# EAGLE library part LT1962 (library linear-technology)
LDO REGULATOR
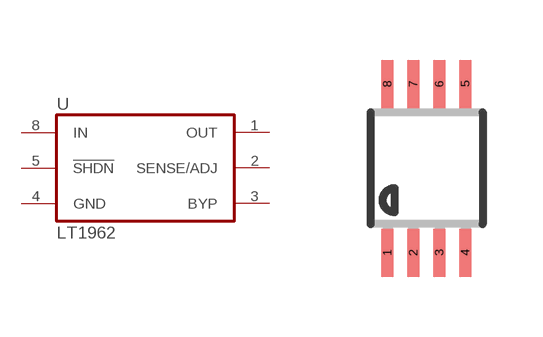
[diagram p60: symbol with the pads of MSOP08; footprint MSOP08]

Designator prefix U

## LT1962  [MSOP08]
1  OUT  pas
2  SENSE/ADJ  pas
3  BYP  in
4  GND  in
5  !SHDN  in
8  IN  in

## Footprint MSOP08 (pad centres in mm)
Mini Small Outline Package
smd 0.3 x 1.2: 1 -0.976,-2.113; 2 -0.326,-2.113; 3 0.324,-2.113; 4 0.974,-2.113; 5 0.974,2.112; 6 0.324,2.112; 7 -0.326,2.112; 8 -0.976,2.112